# Altium integrated library NSC Converter Analog to Digital.IntLib: 246 symbols (part 4 of 7)
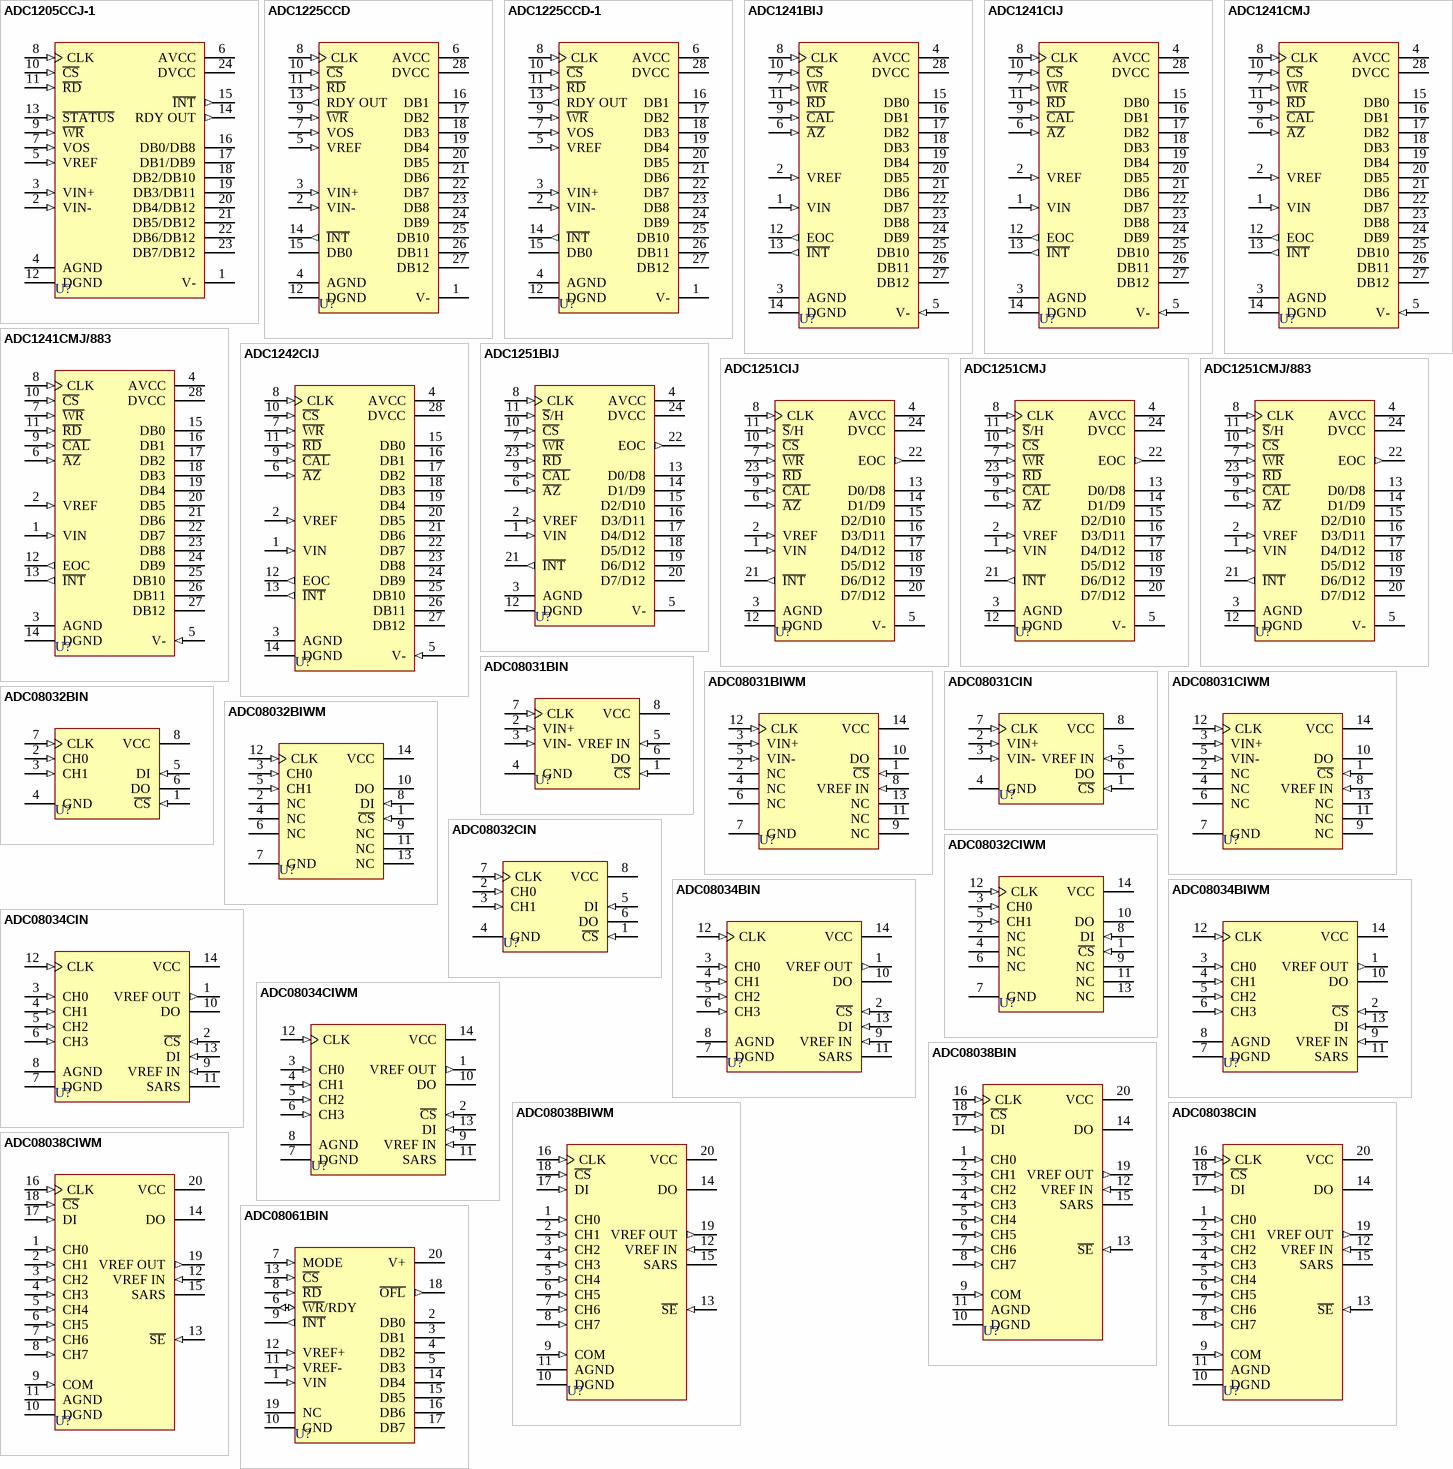
[diagram p12: symbols ADC1205CCJ-1 to ADC08061BIN]

## ADC08031BIWM
designator U?
8-Bit High-Speed Serial I/O A/D Converter with Multiplexer Options, Voltage Reference and Track/Hold Function; ComponentAvailability: Obsolete; Published: 15-Apr-2002; LatestRevisionDate: 13-Apr-2006; LatestRevisionNote: IPC-7351 Footprint Added.; DatasheetVersion: May-1998; PackageVersion: 2000; PackageReference: M14B; Publisher: Altium Limited; PackageDescription: 14-Pin Small Outline Integrated Circuit 1.27 mm Pitch; Code_JEDEC: MS-013-AF; Code_IPC: SOIC127P1030-14; ComponentLink1Description: Manufacturer Link; ComponentLink1URL: http://www.national.com/; ComponentLink2Description: Datasheet; ComponentLink2URL: http://www.national.com/ds.cgi/DC/ADC08031.pdf; ComponentLink3Description: Discontinuation Notice; ComponentLink3URL: http://www.national.com/obs/obsolescence.txt; ComponentLink4Description: URL Link1; ComponentLink4URL: http://www.national.com/pf/DC/ADC08031.html
footprint M14B_N (SOIC, 14-Leads, Body 9x7.5mm, Pitch 1.27mm, IPC Medium Density)
footprint M14B_L (SOIC, 14-Leads, Body 9x7.5mm, Pitch 1.27mm, IPC High Density)
footprint M14B_M (SOIC, 14-Leads, Body 9x7.5mm, Pitch 1.27mm, IPC Low Density)
3D model M14B (14-Pin Small Outline Integrated Circuit 1.27 mm Pitch)
pins: 1 ~{CS} (in), 2 NC, 3 VIN+ (in), 4 NC, 5 VIN- (in), 6 NC, 7 GND (power), 8 VREF IN (in), 9 NC, 10 DO (hiz), 11 NC, 12 CLK (in), 13 NC, 14 VCC (power)

## ADC08031CIN
designator U?
8-Bit High-Speed Serial I/O A/D Converter with Multiplexer Options, Voltage Reference and Track/Hold Function; ComponentAvailability: Obsolete; Published: 15-Apr-2002; LatestRevisionDate: 06-Jun-2005; LatestRevisionNote: Stylized 3D Model Added.; DatasheetVersion: Jun-1999; PackageVersion: Sep-1997; PackageReference: N08E; Publisher: Altium Limited; PackageDescription: DIP; 8 Leads; Row Spacing 7.62 mm; Pitch 2.54 mm; ComponentLink1Description: Manufacturer Link; ComponentLink1URL: http://www.national.com/; ComponentLink2Description: Datasheet; ComponentLink2URL: http://www.national.com/ds.cgi/DC/ADC08031.pdf; ComponentLink3Description: Discontinuation Notice; ComponentLink3URL: http://www.national.com/obs/obsolescence.txt; ComponentLink4Description: URL Link1; ComponentLink4URL: http://www.national.com/pf/DC/ADC08031.html
footprint N08E (DIP; 8 Leads; Row Spacing 7.62 mm; Pitch 2.54 mm)
3D model N08E (DIP; 8 Leads; Row Spacing 7.62 mm; Pitch 2.54 mm)
pins: 1 ~{CS} (in), 2 VIN+ (in), 3 VIN- (in), 4 GND (power), 5 VREF IN (in), 6 DO (hiz), 7 CLK (in), 8 VCC (power)

## ADC08031CIWM
designator U?
8-Bit High-Speed Serial I/O A/D Converter with Multiplexer Options, Voltage Reference and Track/Hold Function; Published: 15-Apr-2002; LatestRevisionDate: 13-Apr-2006; LatestRevisionNote: IPC-7351 Footprint Added.; DatasheetVersion: Jun-1999; PackageVersion: 2000; PackageReference: M14B; Publisher: Altium Limited; PackageDescription: 14-Pin Small Outline Integrated Circuit 1.27 mm Pitch; Code_JEDEC: MS-013-AF; Code_IPC: SOIC127P1030-14; ComponentLink1Description: Manufacturer Link; ComponentLink1URL: http://www.national.com/; ComponentLink2Description: Datasheet; ComponentLink2URL: http://www.national.com/ds.cgi/DC/ADC08031.pdf; ComponentLink3Description: URL Link1; ComponentLink3URL: http://www.national.com/pf/DC/ADC08031.html
footprint M14B_N (SOIC, 14-Leads, Body 9x7.5mm, Pitch 1.27mm, IPC Medium Density)
footprint M14B_L (SOIC, 14-Leads, Body 9x7.5mm, Pitch 1.27mm, IPC High Density)
footprint M14B_M (SOIC, 14-Leads, Body 9x7.5mm, Pitch 1.27mm, IPC Low Density)
3D model M14B (14-Pin Small Outline Integrated Circuit 1.27 mm Pitch)
pins: 1 ~{CS} (in), 2 NC, 3 VIN+ (in), 4 NC, 5 VIN- (in), 6 NC, 7 GND (power), 8 VREF IN (in), 9 NC, 10 DO (hiz), 11 NC, 12 CLK (in), 13 NC, 14 VCC (power)

## ADC08032BIN
designator U?
8-Bit High-Speed Serial I/O A/D Converter with Multiplexer Options, Voltage Reference and Track/Hold Function; ComponentAvailability: Obsolete; Published: 15-Apr-2002; LatestRevisionDate: 06-Jun-2005; LatestRevisionNote: Stylized 3D Model Added.; DatasheetVersion: May-1998; PackageVersion: Sep-1997; PackageReference: N08E; Publisher: Altium Limited; PackageDescription: DIP; 8 Leads; Row Spacing 7.62 mm; Pitch 2.54 mm; ComponentLink1Description: Manufacturer Link; ComponentLink1URL: http://www.national.com/; ComponentLink2Description: Datasheet; ComponentLink2URL: http://www.national.com/ds.cgi/DC/ADC08031.pdf; ComponentLink3Description: Discontinuation Notice; ComponentLink3URL: http://www.national.com/obs/obsolescence.txt; ComponentLink4Description: URL Link1; ComponentLink4URL: http://www.national.com/pf/DC/ADC08032.html
footprint N08E (DIP; 8 Leads; Row Spacing 7.62 mm; Pitch 2.54 mm)
3D model N08E (DIP; 8 Leads; Row Spacing 7.62 mm; Pitch 2.54 mm)
pins: 1 ~{CS} (in), 2 CH0 (in), 3 CH1 (in), 4 GND (power), 5 DI (in), 6 DO (hiz), 7 CLK (in), 8 VCC (power)

## ADC08032BIWM
designator U?
8-Bit High-Speed Serial I/O A/D Converter with Multiplexer Options, Voltage Reference and Track/Hold Function; ComponentAvailability: Obsolete; Published: 15-Apr-2002; LatestRevisionDate: 13-Apr-2006; LatestRevisionNote: IPC-7351 Footprint Added.; DatasheetVersion: May-1998; PackageVersion: 2000; PackageReference: M14B; Publisher: Altium Limited; PackageDescription: 14-Pin Small Outline Integrated Circuit 1.27 mm Pitch; Code_JEDEC: MS-013-AF; Code_IPC: SOIC127P1030-14; ComponentLink1Description: Manufacturer Link; ComponentLink1URL: http://www.national.com/; ComponentLink2Description: Datasheet; ComponentLink2URL: http://www.national.com/ds.cgi/DC/ADC08031.pdf; ComponentLink3Description: Discontinuation Notice; ComponentLink3URL: http://www.national.com/obs/obsolescence.txt; ComponentLink4Description: URL Link1; ComponentLink4URL: http://www.national.com/pf/DC/ADC08032.html
footprint M14B_N (SOIC, 14-Leads, Body 9x7.5mm, Pitch 1.27mm, IPC Medium Density)
footprint M14B_L (SOIC, 14-Leads, Body 9x7.5mm, Pitch 1.27mm, IPC High Density)
footprint M14B_M (SOIC, 14-Leads, Body 9x7.5mm, Pitch 1.27mm, IPC Low Density)
3D model M14B (14-Pin Small Outline Integrated Circuit 1.27 mm Pitch)
pins: 1 ~{CS} (in), 2 NC, 3 CH0 (in), 4 NC, 5 CH1 (in), 6 NC, 7 GND (power), 8 DI (in), 9 NC, 10 DO (hiz), 11 NC, 12 CLK (in), 13 NC, 14 VCC (power)

## ADC08032CIN
designator U?
8-Bit High-Speed Serial I/O A/D Converter with Multiplexer Options, Voltage Reference and Track/Hold Function; ComponentAvailability: Obsolete; Published: 15-Apr-2002; LatestRevisionDate: 06-Jun-2005; LatestRevisionNote: Stylized 3D Model Added.; DatasheetVersion: May-1998; PackageVersion: Sep-1997; PackageReference: N08E; Publisher: Altium Limited; PackageDescription: DIP; 8 Leads; Row Spacing 7.62 mm; Pitch 2.54 mm; ComponentLink1Description: Manufacturer Link; ComponentLink1URL: http://www.national.com/; ComponentLink2Description: Datasheet; ComponentLink2URL: http://www.national.com/ds.cgi/DC/ADC08031.pdf; ComponentLink3Description: Discontinuation Notice; ComponentLink3URL: http://www.national.com/obs/obsolescence.txt; ComponentLink4Description: URL Link1; ComponentLink4URL: http://www.national.com/pf/DC/ADC08032.html
footprint N08E (DIP; 8 Leads; Row Spacing 7.62 mm; Pitch 2.54 mm)
3D model N08E (DIP; 8 Leads; Row Spacing 7.62 mm; Pitch 2.54 mm)
pins: 1 ~{CS} (in), 2 CH0 (in), 3 CH1 (in), 4 GND (power), 5 DI (in), 6 DO (hiz), 7 CLK (in), 8 VCC (power)

## ADC08032CIWM
designator U?
8-Bit High-Speed Serial I/O A/D Converter with Multiplexer Options, Voltage Reference and Track/Hold Function; Published: 15-Apr-2002; LatestRevisionDate: 13-Apr-2006; LatestRevisionNote: IPC-7351 Footprint Added.; DatasheetVersion: May-1998; PackageVersion: 2000; PackageReference: M14B; Publisher: Altium Limited; PackageDescription: 14-Pin Small Outline Integrated Circuit 1.27 mm Pitch; Code_JEDEC: MS-013-AF; Code_IPC: SOIC127P1030-14; ComponentLink1Description: Manufacturer Link; ComponentLink1URL: http://www.national.com/; ComponentLink2Description: Datasheet; ComponentLink2URL: http://www.national.com/ds.cgi/DC/ADC08031.pdf; ComponentLink3Description: URL Link1; ComponentLink3URL: http://www.national.com/pf/DC/ADC08032.html
footprint M14B_N (SOIC, 14-Leads, Body 9x7.5mm, Pitch 1.27mm, IPC Medium Density)
footprint M14B_L (SOIC, 14-Leads, Body 9x7.5mm, Pitch 1.27mm, IPC High Density)
footprint M14B_M (SOIC, 14-Leads, Body 9x7.5mm, Pitch 1.27mm, IPC Low Density)
3D model M14B (14-Pin Small Outline Integrated Circuit 1.27 mm Pitch)
pins: 1 ~{CS} (in), 2 NC, 3 CH0 (in), 4 NC, 5 CH1 (in), 6 NC, 7 GND (power), 8 DI (in), 9 NC, 10 DO (hiz), 11 NC, 12 CLK (in), 13 NC, 14 VCC (power)

## ADC08034BIN
designator U?
8-Bit High-Speed Serial I/O A/D Converter with Multiplexer Options, Voltage Reference and Track/Hold Function; Published: 15-Apr-2002; LatestRevisionDate: 06-Jun-2005; LatestRevisionNote: Stylized 3D Model Added.; DatasheetVersion: May-1998; PackageVersion: 2000; PackageReference: N14A; Publisher: Altium Limited; PackageDescription: DIP; 14 Leads; Row Spacing 7.62 mm; Pitch 2.54 mm; ComponentLink1Description: Manufacturer Link; ComponentLink1URL: http://www.national.com/; ComponentLink2Description: Datasheet; ComponentLink2URL: http://www.national.com/ds.cgi/DC/ADC08031.pdf; ComponentLink3Description: URL Link1; ComponentLink3URL: http://www.national.com/pf/DC/ADC08034.html
footprint N14A (DIP; 14 Leads; Row Spacing 7.62 mm; Pitch 2.54 mm)
3D model N14A (DIP; 14 Leads; Row Spacing 7.62 mm; Pitch 2.54 mm)
pins: 1 VREF OUT (out), 2 ~{CS} (in), 3 CH0 (in), 4 CH1 (in), 5 CH2 (in), 6 CH3 (in), 7 DGND (power), 8 AGND (power), 9 VREF IN (in), 10 DO (hiz), 11 SARS (hiz), 12 CLK (in), 13 DI (in), 14 VCC (power)

## ADC08034BIWM
designator U?
8-Bit High-Speed Serial I/O A/D Converter with Multiplexer Options, Voltage Reference and Track/Hold Function; ComponentAvailability: Obsolete; Published: 15-Apr-2002; LatestRevisionDate: 13-Apr-2006; LatestRevisionNote: IPC-7351 Footprint Added.; DatasheetVersion: May-1998; PackageVersion: 2000; PackageReference: M14B; Publisher: Altium Limited; PackageDescription: 14-Pin Small Outline Integrated Circuit 1.27 mm Pitch; Code_JEDEC: MS-013-AF; Code_IPC: SOIC127P1030-14; ComponentLink1Description: Manufacturer Link; ComponentLink1URL: http://www.national.com/; ComponentLink2Description: Datasheet; ComponentLink2URL: http://www.national.com/ds.cgi/DC/ADC08031.pdf; ComponentLink3Description: Discontinuation Notice; ComponentLink3URL: http://www.national.com/obs/obsolescence.txt; ComponentLink4Description: URL Link1; ComponentLink4URL: http://www.national.com/pf/DC/ADC08034.html
footprint M14B_N (SOIC, 14-Leads, Body 9x7.5mm, Pitch 1.27mm, IPC Medium Density)
footprint M14B_L (SOIC, 14-Leads, Body 9x7.5mm, Pitch 1.27mm, IPC High Density)
footprint M14B_M (SOIC, 14-Leads, Body 9x7.5mm, Pitch 1.27mm, IPC Low Density)
3D model M14B (14-Pin Small Outline Integrated Circuit 1.27 mm Pitch)
pins: 1 VREF OUT (out), 2 ~{CS} (in), 3 CH0 (in), 4 CH1 (in), 5 CH2 (in), 6 CH3 (in), 7 DGND (power), 8 AGND (power), 9 VREF IN (in), 10 DO (hiz), 11 SARS (hiz), 12 CLK (in), 13 DI (in), 14 VCC (power)

## ADC08034CIN
designator U?
8-Bit High-Speed Serial I/O A/D Converter with Multiplexer Options, Voltage Reference and Track/Hold Function; ComponentAvailability: Obsolete; Published: 15-Apr-2002; LatestRevisionDate: 06-Jun-2005; LatestRevisionNote: Stylized 3D Model Added.; DatasheetVersion: May-1998; PackageVersion: 2000; PackageReference: N14A; Publisher: Altium Limited; PackageDescription: DIP; 14 Leads; Row Spacing 7.62 mm; Pitch 2.54 mm; ComponentLink1Description: Manufacturer Link; ComponentLink1URL: http://www.national.com/; ComponentLink2Description: Datasheet; ComponentLink2URL: http://www.national.com/ds.cgi/DC/ADC08031.pdf; ComponentLink3Description: Discontinuation Notice; ComponentLink3URL: http://www.national.com/obs/obsolescence.txt; ComponentLink4Description: URL Link1; ComponentLink4URL: http://www.national.com/pf/DC/ADC08034.html
footprint N14A (DIP; 14 Leads; Row Spacing 7.62 mm; Pitch 2.54 mm)
3D model N14A (DIP; 14 Leads; Row Spacing 7.62 mm; Pitch 2.54 mm)
pins: 1 VREF OUT (out), 2 ~{CS} (in), 3 CH0 (in), 4 CH1 (in), 5 CH2 (in), 6 CH3 (in), 7 DGND (power), 8 AGND (power), 9 VREF IN (in), 10 DO (hiz), 11 SARS (hiz), 12 CLK (in), 13 DI (in), 14 VCC (power)

## ADC08034CIWM
designator U?
8-Bit High-Speed Serial I/O A/D Converter with Multiplexer Options, Voltage Reference and Track/Hold Function; Published: 15-Apr-2002; LatestRevisionDate: 13-Apr-2006; LatestRevisionNote: IPC-7351 Footprint Added.; DatasheetVersion: Jun-1999; PackageVersion: 2000; PackageReference: M14B; Publisher: Altium Limited; PackageDescription: 14-Pin Small Outline Integrated Circuit 1.27 mm Pitch; Code_JEDEC: MS-013-AF; Code_IPC: SOIC127P1030-14; ComponentLink1Description: Manufacturer Link; ComponentLink1URL: http://www.national.com/; ComponentLink2Description: Datasheet; ComponentLink2URL: http://www.national.com/ds.cgi/DC/ADC08031.pdf; ComponentLink3Description: URL Link1; ComponentLink3URL: http://www.national.com/pf/DC/ADC08034.html
footprint M14B_N (SOIC, 14-Leads, Body 9x7.5mm, Pitch 1.27mm, IPC Medium Density)
footprint M14B_L (SOIC, 14-Leads, Body 9x7.5mm, Pitch 1.27mm, IPC High Density)
footprint M14B_M (SOIC, 14-Leads, Body 9x7.5mm, Pitch 1.27mm, IPC Low Density)
3D model M14B (14-Pin Small Outline Integrated Circuit 1.27 mm Pitch)
pins: 1 VREF OUT (out), 2 ~{CS} (in), 3 CH0 (in), 4 CH1 (in), 5 CH2 (in), 6 CH3 (in), 7 DGND (power), 8 AGND (power), 9 VREF IN (in), 10 DO (hiz), 11 SARS (hiz), 12 CLK (in), 13 DI (in), 14 VCC (power)

## ADC08038BIN
designator U?
8-Bit High-Speed Serial I/O A/D Converter with Multiplexer Options, Voltage Reference and Track/Hold Function; ComponentAvailability: Obsolete; Published: 15-Apr-2002; LatestRevisionDate: 06-Jun-2005; LatestRevisionNote: Stylized 3D Model Added.; DatasheetVersion: May-1998; PackageVersion: 2000; PackageReference: N20A; Publisher: Altium Limited; PackageDescription: DIP; 20 Leads; Row Spacing 7.62 mm; Pitch 2.54 mm; Code_JEDEC: MS-001-AD; ComponentLink1Description: Manufacturer Link; ComponentLink1URL: http://www.national.com/; ComponentLink2Description: Datasheet; ComponentLink2URL: http://www.national.com/ds.cgi/DC/ADC08031.pdf; ComponentLink3Description: Discontinuation Notice; ComponentLink3URL: http://www.national.com/obs/obsolescence.txt; ComponentLink4Description: URL Link1; ComponentLink4URL: http://www.national.com/pf/DC/ADC08038.html
footprint N20A (DIP; 20 Leads; Row Spacing 7.62 mm; Pitch 2.54 mm)
3D model N20A (DIP; 20 Leads; Row Spacing 7.62 mm; Pitch 2.54 mm)
pins: 1 CH0 (in), 2 CH1 (in), 3 CH2 (in), 4 CH3 (in), 5 CH4 (in), 6 CH5 (in), 7 CH6 (in), 8 CH7 (in), 9 COM (in), 10 DGND (power), 11 AGND (power), 12 VREF IN (in), 13 ~{SE} (in), 14 DO (hiz), 15 SARS (hiz), 16 CLK (in), 17 DI (in), 18 ~{CS} (in), 19 VREF OUT (out), 20 VCC (power)

## ADC08038BIWM
designator U?
8-Bit High-Speed Serial I/O A/D Converter with Multiplexer Options, Voltage Reference and Track/Hold Function; ComponentAvailability: Obsolete; Published: 15-Apr-2002; LatestRevisionDate: 13-Apr-2006; LatestRevisionNote: IPC-7351 Footprint Added.; DatasheetVersion: May-1998; PackageVersion: 2000; PackageReference: M20B; Publisher: Altium Limited; PackageDescription: 20-Pin Small Outline Integrated Circuit 1.27 mm Pitch; Code_JEDEC: MS-013-AC; Code_IPC: SOIC127P1030-20; ComponentLink1Description: Manufacturer Link; ComponentLink1URL: http://www.national.com/; ComponentLink2Description: Datasheet; ComponentLink2URL: http://www.national.com/ds.cgi/DC/ADC08031.pdf; ComponentLink3Description: Discontinuation Notice; ComponentLink3URL: http://www.national.com/obs/obsolescence.txt; ComponentLink4Description: URL Link1; ComponentLink4URL: http://www.national.com/pf/DC/ADC08038.html
footprint M20B_N (SOIC, 20-Leads, Body 12.8x7.5mm, Pitch 1.27mm, IPC Medium Density)
footprint M20B_L (SOIC, 20-Leads, Body 12.8x7.5mm, Pitch 1.27mm, IPC High Density)
footprint M20B_M (SOIC, 20-Leads, Body 12.8x7.5mm, Pitch 1.27mm, IPC Low Density)
3D model M20B (20-Pin Small Outline Integrated Circuit 1.27 mm Pitch)
pins: 1 CH0 (in), 2 CH1 (in), 3 CH2 (in), 4 CH3 (in), 5 CH4 (in), 6 CH5 (in), 7 CH6 (in), 8 CH7 (in), 9 COM (in), 10 DGND (power), 11 AGND (power), 12 VREF IN (in), 13 ~{SE} (in), 14 DO (hiz), 15 SARS (hiz), 16 CLK (in), 17 DI (in), 18 ~{CS} (in), 19 VREF OUT (out), 20 VCC (power)

## ADC08038CIN
designator U?
8-Bit High-Speed Serial I/O A/D Converter with Multiplexer Options, Voltage Reference and Track/Hold Function; ComponentAvailability: Obsolete; Published: 15-Apr-2002; LatestRevisionDate: 06-Jun-2005; LatestRevisionNote: Stylized 3D Model Added.; DatasheetVersion: May-1998; PackageVersion: 2000; PackageReference: N20A; Publisher: Altium Limited; PackageDescription: DIP; 20 Leads; Row Spacing 7.62 mm; Pitch 2.54 mm; Code_JEDEC: MS-001-AD; ComponentLink1Description: Manufacturer Link; ComponentLink1URL: http://www.national.com/; ComponentLink2Description: Datasheet; ComponentLink2URL: http://www.national.com/ds.cgi/DC/ADC08031.pdf; ComponentLink3Description: Discontinuation Notice; ComponentLink3URL: http://www.national.com/obs/obsolescence.txt; ComponentLink4Description: URL Link1; ComponentLink4URL: http://www.national.com/pf/DC/ADC08038.html
footprint N20A (DIP; 20 Leads; Row Spacing 7.62 mm; Pitch 2.54 mm)
3D model N20A (DIP; 20 Leads; Row Spacing 7.62 mm; Pitch 2.54 mm)
pins: 1 CH0 (in), 2 CH1 (in), 3 CH2 (in), 4 CH3 (in), 5 CH4 (in), 6 CH5 (in), 7 CH6 (in), 8 CH7 (in), 9 COM (in), 10 DGND (power), 11 AGND (power), 12 VREF IN (in), 13 ~{SE} (in), 14 DO (hiz), 15 SARS (hiz), 16 CLK (in), 17 DI (in), 18 ~{CS} (in), 19 VREF OUT (out), 20 VCC (power)

## ADC08038CIWM
designator U?
8-Bit High-Speed Serial I/O A/D Converter with Multiplexer Options, Voltage Reference and Track/Hold Function; Published: 15-Apr-2002; LatestRevisionDate: 13-Apr-2006; LatestRevisionNote: IPC-7351 Footprint Added.; DatasheetVersion: Jun-1999; PackageVersion: 2000; PackageReference: M20B; Publisher: Altium Limited; PackageDescription: 20-Pin Small Outline Integrated Circuit 1.27 mm Pitch; Code_JEDEC: MS-013-AC; Code_IPC: SOIC127P1030-20; ComponentLink1Description: Manufacturer Link; ComponentLink1URL: http://www.national.com/; ComponentLink2Description: Datasheet; ComponentLink2URL: http://www.national.com/ds.cgi/DC/ADC08031.pdf; ComponentLink3Description: URL Link1; ComponentLink3URL: http://www.national.com/pf/DC/ADC08038.html
footprint M20B_N (SOIC, 20-Leads, Body 12.8x7.5mm, Pitch 1.27mm, IPC Medium Density)
footprint M20B_L (SOIC, 20-Leads, Body 12.8x7.5mm, Pitch 1.27mm, IPC High Density)
footprint M20B_M (SOIC, 20-Leads, Body 12.8x7.5mm, Pitch 1.27mm, IPC Low Density)
3D model M20B (20-Pin Small Outline Integrated Circuit 1.27 mm Pitch)
pins: 1 CH0 (in), 2 CH1 (in), 3 CH2 (in), 4 CH3 (in), 5 CH4 (in), 6 CH5 (in), 7 CH6 (in), 8 CH7 (in), 9 COM (in), 10 DGND (power), 11 AGND (power), 12 VREF IN (in), 13 ~{SE} (in), 14 DO (hiz), 15 SARS (hiz), 16 CLK (in), 17 DI (in), 18 ~{CS} (in), 19 VREF OUT (out), 20 VCC (power)

## ADC08061BIN
designator U?
500 nS A/D Converter with S/H Function and Input Multiplexer; ComponentAvailability: Obsolete; Published: 15-Apr-2002; LatestRevisionDate: 06-Jun-2005; LatestRevisionNote: Stylized 3D Model Added.; DatasheetVersion: Jun-1999; PackageVersion: 2000; PackageReference: N20A; Publisher: Altium Limited; PackageDescription: DIP; 20 Leads; Row Spacing 7.62 mm; Pitch 2.54 mm; Code_JEDEC: MS-001-AD; ComponentLink1Description: Manufacturer Link; ComponentLink1URL: http://www.national.com/; ComponentLink2Description: Datasheet; ComponentLink2URL: http://www.national.com/ds.cgi/DC/ADC08061.pdf; ComponentLink3Description: Discontinuation Notice; ComponentLink3URL: http://www.national.com/obs/obsolescence.txt; ComponentLink4Description: URL Link1; ComponentLink4URL: http://www.national.com/pf/DC/ADC08061.html
footprint N20A (DIP; 20 Leads; Row Spacing 7.62 mm; Pitch 2.54 mm)
3D model N20A (DIP; 20 Leads; Row Spacing 7.62 mm; Pitch 2.54 mm)
pins: 1 VIN (in), 2 DB0 (hiz), 3 DB1 (hiz), 4 DB2 (hiz), 5 DB3 (hiz), 6 ~{WR}/RDY (io), 7 MODE (in), 8 ~{RD} (in), 9 ~{INT} (out), 10 GND (power), 11 VREF- (in), 12 VREF+ (in), 13 ~{CS} (in), 14 DB4 (hiz), 15 DB5 (hiz), 16 DB6 (hiz), 17 DB7 (hiz), 18 ~{OFL} (out), 19 NC, 20 V+ (power)

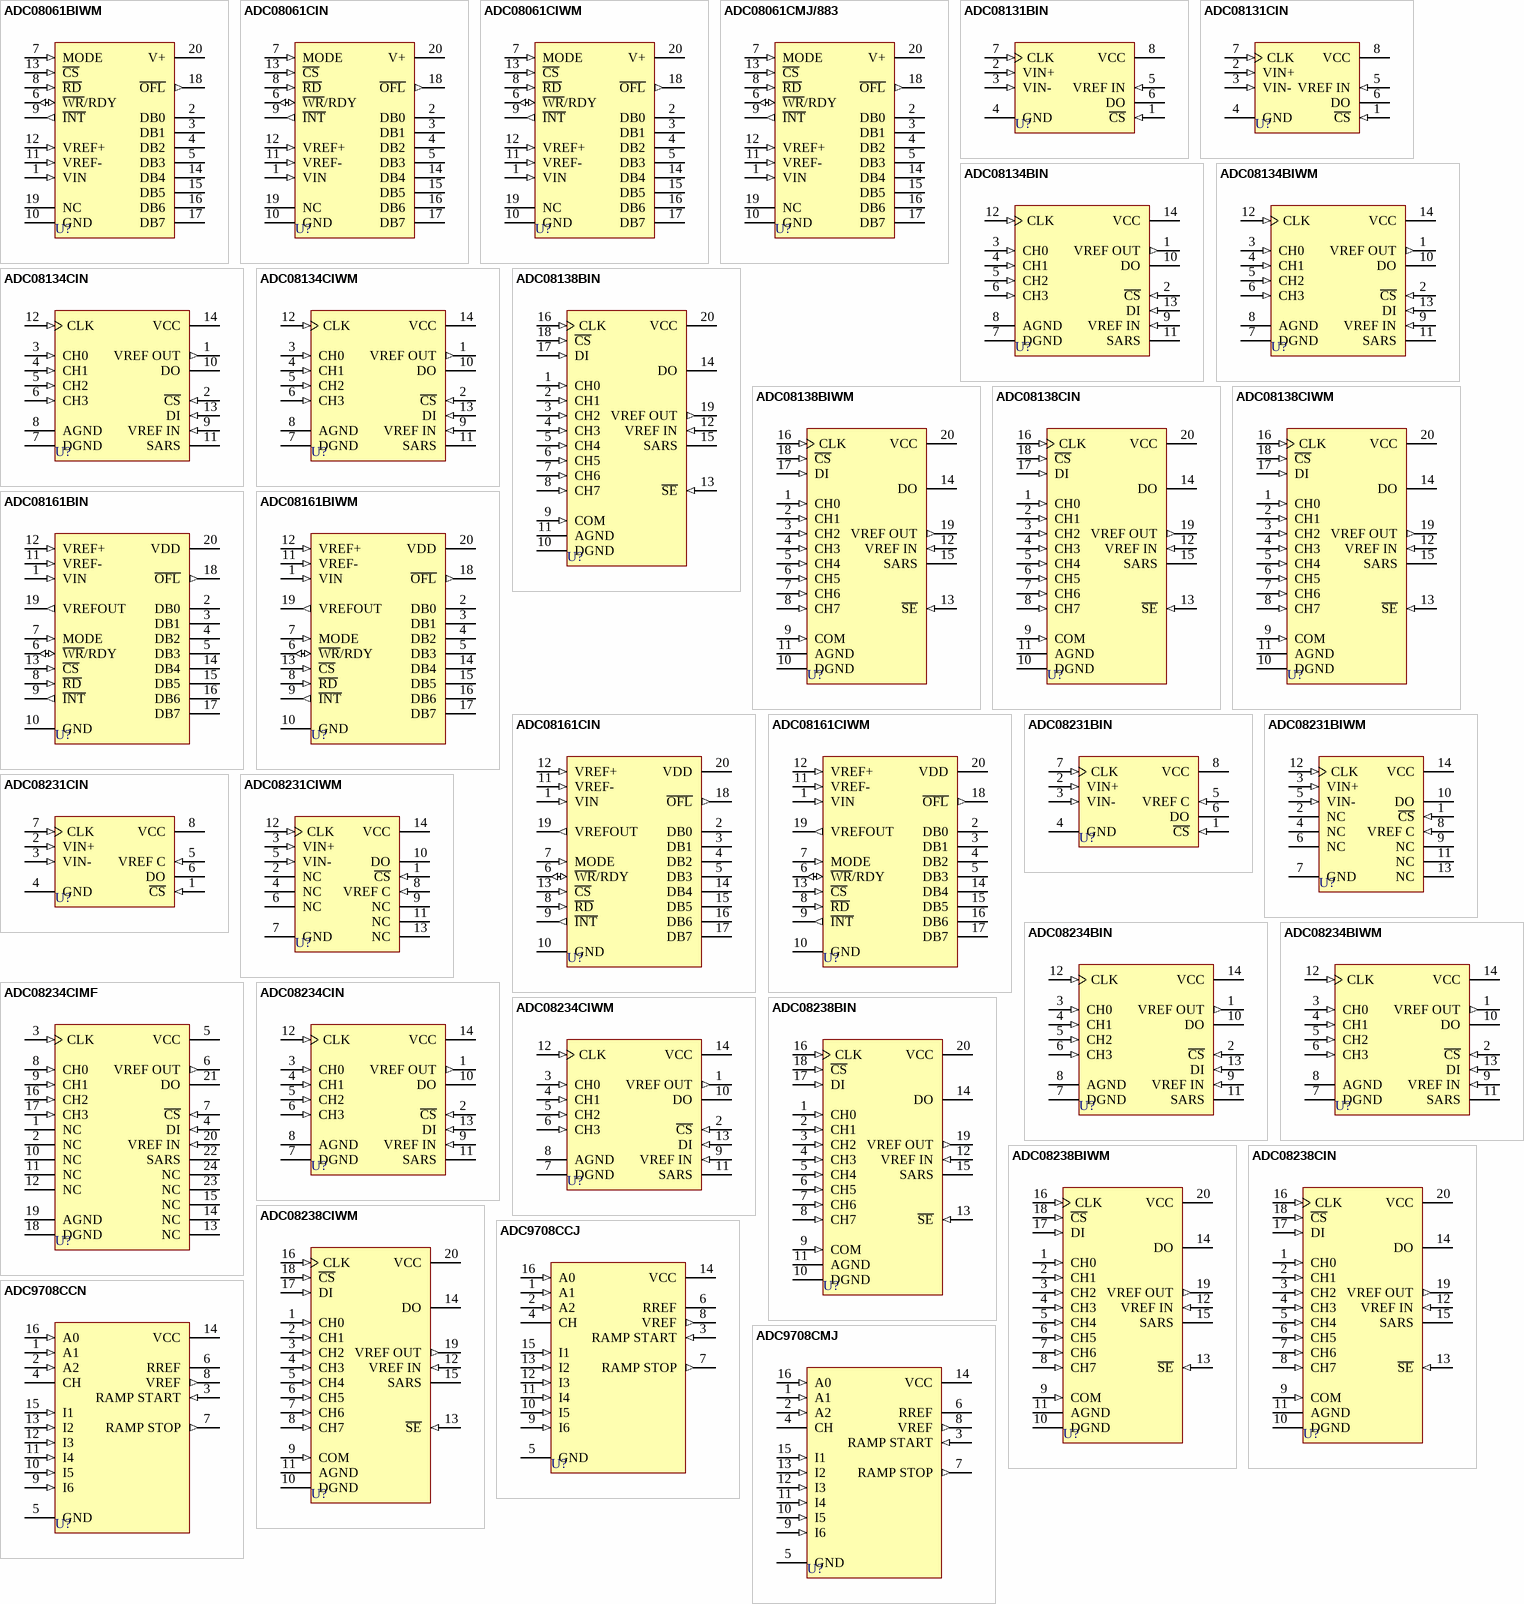
[diagram p5: symbols ADC08061BIWM to ADC9708CMJ]

## ADC08061BIWM
designator U?
500 nS A/D Converter with S/H Function and Input Multiplexer; ComponentAvailability: Obsolete; Published: 15-Apr-2002; LatestRevisionDate: 13-Apr-2006; LatestRevisionNote: IPC-7351 Footprint Added.; DatasheetVersion: Mar-1999; PackageVersion: 2000; PackageReference: M20B; Publisher: Altium Limited; PackageDescription: 20-Pin Small Outline Integrated Circuit 1.27 mm Pitch; Code_JEDEC: MS-013-AC; Code_IPC: SOIC127P1030-20; ComponentLink1Description: Manufacturer Link; ComponentLink1URL: http://www.national.com/; ComponentLink2Description: Datasheet; ComponentLink2URL: http://www.national.com/ds.cgi/DC/ADC08061.pdf; ComponentLink3Description: Discontinuation Notice; ComponentLink3URL: http://www.national.com/obs/obsolescence.txt; ComponentLink4Description: URL Link1; ComponentLink4URL: http://www.national.com/pf/DC/ADC08061.html
footprint M20B_N (SOIC, 20-Leads, Body 12.8x7.5mm, Pitch 1.27mm, IPC Medium Density)
footprint M20B_L (SOIC, 20-Leads, Body 12.8x7.5mm, Pitch 1.27mm, IPC High Density)
footprint M20B_M (SOIC, 20-Leads, Body 12.8x7.5mm, Pitch 1.27mm, IPC Low Density)
3D model M20B (20-Pin Small Outline Integrated Circuit 1.27 mm Pitch)
pins: 1 VIN (in), 2 DB0 (hiz), 3 DB1 (hiz), 4 DB2 (hiz), 5 DB3 (hiz), 6 ~{WR}/RDY (io), 7 MODE (in), 8 ~{RD} (in), 9 ~{INT} (out), 10 GND (power), 11 VREF- (in), 12 VREF+ (in), 13 ~{CS} (in), 14 DB4 (hiz), 15 DB5 (hiz), 16 DB6 (hiz), 17 DB7 (hiz), 18 ~{OFL} (out), 19 NC, 20 V+ (power)

## ADC08061CIN
designator U?
500 nS A/D Converter with S/H Function and Input Multiplexer; ComponentAvailability: Obsolete; Published: 15-Apr-2002; LatestRevisionDate: 06-Jun-2005; LatestRevisionNote: Stylized 3D Model Added.; DatasheetVersion: Mar-1999; PackageVersion: 2000; PackageReference: N20A; Publisher: Altium Limited; PackageDescription: DIP; 20 Leads; Row Spacing 7.62 mm; Pitch 2.54 mm; Code_JEDEC: MS-001-AD; ComponentLink1Description: Manufacturer Link; ComponentLink1URL: http://www.national.com/; ComponentLink2Description: Datasheet; ComponentLink2URL: http://www.national.com/ds.cgi/DC/ADC08061.pdf; ComponentLink3Description: Discontinuation Notice; ComponentLink3URL: http://www.national.com/obs/obsolescence.txt; ComponentLink4Description: URL Link1; ComponentLink4URL: http://www.national.com/pf/DC/ADC08061.html
footprint N20A (DIP; 20 Leads; Row Spacing 7.62 mm; Pitch 2.54 mm)
3D model N20A (DIP; 20 Leads; Row Spacing 7.62 mm; Pitch 2.54 mm)
pins: 1 VIN (in), 2 DB0 (hiz), 3 DB1 (hiz), 4 DB2 (hiz), 5 DB3 (hiz), 6 ~{WR}/RDY (io), 7 MODE (in), 8 ~{RD} (in), 9 ~{INT} (out), 10 GND (power), 11 VREF- (in), 12 VREF+ (in), 13 ~{CS} (in), 14 DB4 (hiz), 15 DB5 (hiz), 16 DB6 (hiz), 17 DB7 (hiz), 18 ~{OFL} (out), 19 NC, 20 V+ (power)

## ADC08061CIWM
designator U?
500 nS A/D Converter with S/H Function and Input Multiplexer; Published: 15-Apr-2002; LatestRevisionDate: 13-Apr-2006; LatestRevisionNote: IPC-7351 Footprint Added.; DatasheetVersion: Jun-1999; PackageVersion: 2000; PackageReference: M20B; Publisher: Altium Limited; PackageDescription: 20-Pin Small Outline Integrated Circuit 1.27 mm Pitch; Code_JEDEC: MS-013-AC; Code_IPC: SOIC127P1030-20; ComponentLink1Description: Manufacturer Link; ComponentLink1URL: http://www.national.com/; ComponentLink2Description: Datasheet; ComponentLink2URL: http://www.national.com/ds.cgi/DC/ADC08061.pdf; ComponentLink3Description: URL Link1; ComponentLink3URL: http://www.national.com/pf/DC/ADC08061.html
footprint M20B_N (SOIC, 20-Leads, Body 12.8x7.5mm, Pitch 1.27mm, IPC Medium Density)
footprint M20B_L (SOIC, 20-Leads, Body 12.8x7.5mm, Pitch 1.27mm, IPC High Density)
footprint M20B_M (SOIC, 20-Leads, Body 12.8x7.5mm, Pitch 1.27mm, IPC Low Density)
3D model M20B (20-Pin Small Outline Integrated Circuit 1.27 mm Pitch)
pins: 1 VIN (in), 2 DB0 (hiz), 3 DB1 (hiz), 4 DB2 (hiz), 5 DB3 (hiz), 6 ~{WR}/RDY (io), 7 MODE (in), 8 ~{RD} (in), 9 ~{INT} (out), 10 GND (power), 11 VREF- (in), 12 VREF+ (in), 13 ~{CS} (in), 14 DB4 (hiz), 15 DB5 (hiz), 16 DB6 (hiz), 17 DB7 (hiz), 18 ~{OFL} (out), 19 NC, 20 V+ (power)

## ADC08061CMJ/883
designator U?
500 nS A/D Converter with S/H Function and Input Multiplexer; Published: 15-Apr-2002; LatestRevisionDate: 06-Jun-2005; LatestRevisionNote: Stylized 3D Model Added.; DatasheetVersion: Mar-1999; PackageVersion: 2000; PackageReference: J20A; Publisher: Altium Limited; PackageDescription: DIP; 20 Leads; Row Spacing 7.62 mm; Pitch 2.54 mm; Code_JEDEC: MS-015-AE; ComponentLink1Description: Manufacturer Link; ComponentLink1URL: http://www.national.com/; ComponentLink2Description: Datasheet; ComponentLink2URL: http://www.national.com/ds.cgi/DC/ADC08061.pdf; ComponentLink3Description: URL Link1; ComponentLink3URL: http://www.national.com/pf/DC/ADC08061.html
footprint J20A (DIP; 20 Leads; Row Spacing 7.62 mm; Pitch 2.54 mm)
3D model J20A (DIP; 20 Leads; Row Spacing 7.62 mm; Pitch 2.54 mm)
pins: 1 VIN (in), 2 DB0 (hiz), 3 DB1 (hiz), 4 DB2 (hiz), 5 DB3 (hiz), 6 ~{WR}/RDY (io), 7 MODE (in), 8 ~{RD} (in), 9 ~{INT} (out), 10 GND (power), 11 VREF- (in), 12 VREF+ (in), 13 ~{CS} (in), 14 DB4 (hiz), 15 DB5 (hiz), 16 DB6 (hiz), 17 DB7 (hiz), 18 ~{OFL} (out), 19 NC, 20 V+ (power)

## ADC08131BIN
designator U?
8-Bit High-Speed Serial I/O A/D Converter with Multiplexer Options, Voltage Reference and Track/Hold Function; ComponentAvailability: Obsolete; Published: 15-Apr-2002; LatestRevisionDate: 06-Jun-2005; LatestRevisionNote: Stylized 3D Model Added.; PackageVersion: Sep-1997; PackageReference: N08E; Publisher: Altium Limited; PackageDescription: DIP; 8 Leads; Row Spacing 7.62 mm; Pitch 2.54 mm; ComponentLink1Description: Manufacturer Link; ComponentLink1URL: http://www.national.com/; ComponentLink2Description: Datasheet; ComponentLink2URL: http://www.national.com/ds.cgi/DC/ADC08131.pdf; ComponentLink3Description: Discontinuation Notice; ComponentLink3URL: http://www.national.com/obs/obsolescence.txt; ComponentLink4Description: URL Link1; ComponentLink4URL: http://www.national.com/pf/DC/ADC08131.html
footprint N08E (DIP; 8 Leads; Row Spacing 7.62 mm; Pitch 2.54 mm)
3D model N08E (DIP; 8 Leads; Row Spacing 7.62 mm; Pitch 2.54 mm)
pins: 1 ~{CS} (in), 2 VIN+ (in), 3 VIN- (in), 4 GND (power), 5 VREF IN (in), 6 DO (hiz), 7 CLK (in), 8 VCC (power)

## ADC08131CIN
designator U?
8-Bit High-Speed Serial I/O A/D Converter with Multiplexer Options, Voltage Reference and Track/Hold Function; ComponentAvailability: Obsolete; Published: 15-Apr-2002; LatestRevisionDate: 06-Jun-2005; LatestRevisionNote: Stylized 3D Model Added.; PackageVersion: Sep-1997; PackageReference: N08E; Publisher: Altium Limited; PackageDescription: DIP; 8 Leads; Row Spacing 7.62 mm; Pitch 2.54 mm; ComponentLink1Description: Manufacturer Link; ComponentLink1URL: http://www.national.com/; ComponentLink2Description: Datasheet; ComponentLink2URL: http://www.national.com/ds.cgi/DC/ADC08131.pdf; ComponentLink3Description: Discontinuation Notice; ComponentLink3URL: http://www.national.com/obs/obsolescence.txt; ComponentLink4Description: URL Link1; ComponentLink4URL: http://www.national.com/pf/DC/ADC08131.html
footprint N08E (DIP; 8 Leads; Row Spacing 7.62 mm; Pitch 2.54 mm)
3D model N08E (DIP; 8 Leads; Row Spacing 7.62 mm; Pitch 2.54 mm)
pins: 1 ~{CS} (in), 2 VIN+ (in), 3 VIN- (in), 4 GND (power), 5 VREF IN (in), 6 DO (hiz), 7 CLK (in), 8 VCC (power)

## ADC08134BIN
designator U?
8-Bit High-Speed Serial I/O A/D Converter with Multiplexer Options, Voltage Reference and Track/Hold Function; ComponentAvailability: Obsolete; Published: 15-Apr-2002; LatestRevisionDate: 06-Jun-2005; LatestRevisionNote: Stylized 3D Model Added.; PackageVersion: 2000; PackageReference: N14A; Publisher: Altium Limited; PackageDescription: DIP; 14 Leads; Row Spacing 7.62 mm; Pitch 2.54 mm; ComponentLink1Description: Manufacturer Link; ComponentLink1URL: http://www.national.com/; ComponentLink2Description: Datasheet; ComponentLink2URL: http://www.national.com/ds.cgi/DC/ADC08131.pdf; ComponentLink3Description: Discontinuation Notice; ComponentLink3URL: http://www.national.com/obs/obsolescence.txt; ComponentLink4Description: URL Link1; ComponentLink4URL: http://www.national.com/pf/DC/ADC08134.html
footprint N14A (DIP; 14 Leads; Row Spacing 7.62 mm; Pitch 2.54 mm)
3D model N14A (DIP; 14 Leads; Row Spacing 7.62 mm; Pitch 2.54 mm)
pins: 1 VREF OUT (out), 2 ~{CS} (in), 3 CH0 (in), 4 CH1 (in), 5 CH2 (in), 6 CH3 (in), 7 DGND (power), 8 AGND (power), 9 VREF IN (in), 10 DO (hiz), 11 SARS (hiz), 12 CLK (in), 13 DI (in), 14 VCC (power)

## ADC08134BIWM
designator U?
8-Bit High-Speed Serial I/O A/D Converter with Multiplexer Options, Voltage Reference and Track/Hold Function; ComponentAvailability: Obsolete; Published: 15-Apr-2002; LatestRevisionDate: 13-Apr-2006; LatestRevisionNote: IPC-7351 Footprint Added.; PackageVersion: 2000; PackageReference: M14B; Publisher: Altium Limited; PackageDescription: 14-Pin Small Outline Integrated Circuit 1.27 mm Pitch; Code_JEDEC: MS-013-AF; Code_IPC: SOIC127P1030-14; ComponentLink1Description: Manufacturer Link; ComponentLink1URL: http://www.national.com/; ComponentLink2Description: Datasheet; ComponentLink2URL: http://www.national.com/ds.cgi/DC/ADC08131.pdf; ComponentLink3Description: Discontinuation Notice; ComponentLink3URL: http://www.national.com/obs/obsolescence.txt; ComponentLink4Description: URL Link1; ComponentLink4URL: http://www.national.com/pf/DC/ADC08134.html
footprint M14B_N (SOIC, 14-Leads, Body 9x7.5mm, Pitch 1.27mm, IPC Medium Density)
footprint M14B_L (SOIC, 14-Leads, Body 9x7.5mm, Pitch 1.27mm, IPC High Density)
footprint M14B_M (SOIC, 14-Leads, Body 9x7.5mm, Pitch 1.27mm, IPC Low Density)
3D model M14B (14-Pin Small Outline Integrated Circuit 1.27 mm Pitch)
pins: 1 VREF OUT (out), 2 ~{CS} (in), 3 CH0 (in), 4 CH1 (in), 5 CH2 (in), 6 CH3 (in), 7 DGND (power), 8 AGND (power), 9 VREF IN (in), 10 DO (hiz), 11 SARS (hiz), 12 CLK (in), 13 DI (in), 14 VCC (power)

## ADC08134CIN
designator U?
8-Bit High-Speed Serial I/O A/D Converter with Multiplexer Options, Voltage Reference and Track/Hold Function; ComponentAvailability: Obsolete; Published: 15-Apr-2002; LatestRevisionDate: 06-Jun-2005; LatestRevisionNote: Stylized 3D Model Added.; PackageVersion: 2000; PackageReference: N14A; Publisher: Altium Limited; PackageDescription: DIP; 14 Leads; Row Spacing 7.62 mm; Pitch 2.54 mm; ComponentLink1Description: Manufacturer Link; ComponentLink1URL: http://www.national.com/; ComponentLink2Description: Datasheet; ComponentLink2URL: http://www.national.com/ds.cgi/DC/ADC08131.pdf; ComponentLink3Description: Discontinuation Notice; ComponentLink3URL: http://www.national.com/obs/obsolescence.txt; ComponentLink4Description: URL Link1; ComponentLink4URL: http://www.national.com/pf/DC/ADC08134.html
footprint N14A (DIP; 14 Leads; Row Spacing 7.62 mm; Pitch 2.54 mm)
3D model N14A (DIP; 14 Leads; Row Spacing 7.62 mm; Pitch 2.54 mm)
pins: 1 VREF OUT (out), 2 ~{CS} (in), 3 CH0 (in), 4 CH1 (in), 5 CH2 (in), 6 CH3 (in), 7 DGND (power), 8 AGND (power), 9 VREF IN (in), 10 DO (hiz), 11 SARS (hiz), 12 CLK (in), 13 DI (in), 14 VCC (power)

## ADC08134CIWM
designator U?
8-Bit High-Speed Serial I/O A/D Converter with Multiplexer Options, Voltage Reference and Track/Hold Function; Published: 15-Apr-2002; LatestRevisionDate: 13-Apr-2006; LatestRevisionNote: IPC-7351 Footprint Added.; DatasheetVersion: Jun-1999; PackageVersion: 2000; PackageReference: M14B; Publisher: Altium Limited; PackageDescription: 14-Pin Small Outline Integrated Circuit 1.27 mm Pitch; Code_JEDEC: MS-013-AF; Code_IPC: SOIC127P1030-14; ComponentLink1Description: Manufacturer Link; ComponentLink1URL: http://www.national.com/; ComponentLink2Description: Datasheet; ComponentLink2URL: http://www.national.com/ds.cgi/DC/ADC08131.pdf; ComponentLink3Description: URL Link1; ComponentLink3URL: http://www.national.com/pf/DC/ADC08134.html
footprint M14B_N (SOIC, 14-Leads, Body 9x7.5mm, Pitch 1.27mm, IPC Medium Density)
footprint M14B_L (SOIC, 14-Leads, Body 9x7.5mm, Pitch 1.27mm, IPC High Density)
footprint M14B_M (SOIC, 14-Leads, Body 9x7.5mm, Pitch 1.27mm, IPC Low Density)
3D model M14B (14-Pin Small Outline Integrated Circuit 1.27 mm Pitch)
pins: 1 VREF OUT (out), 2 ~{CS} (in), 3 CH0 (in), 4 CH1 (in), 5 CH2 (in), 6 CH3 (in), 7 DGND (power), 8 AGND (power), 9 VREF IN (in), 10 DO (hiz), 11 SARS (hiz), 12 CLK (in), 13 DI (in), 14 VCC (power)

## ADC08138BIN
designator U?
8-Bit High-Speed Serial I/O A/D Converter with Multiplexer Options, Voltage Reference and Track/Hold Function; ComponentAvailability: Obsolete; Published: 15-Apr-2002; LatestRevisionDate: 06-Jun-2005; LatestRevisionNote: Stylized 3D Model Added.; PackageVersion: 2000; PackageReference: N20A; Publisher: Altium Limited; PackageDescription: DIP; 20 Leads; Row Spacing 7.62 mm; Pitch 2.54 mm; Code_JEDEC: MS-001-AD; ComponentLink1Description: Manufacturer Link; ComponentLink1URL: http://www.national.com/; ComponentLink2Description: Datasheet; ComponentLink2URL: http://www.national.com/ds.cgi/DC/ADC08131.pdf; ComponentLink3Description: Discontinuation Notice; ComponentLink3URL: http://www.national.com/obs/obsolescence.txt; ComponentLink4Description: URL Link1; ComponentLink4URL: http://www.national.com/pf/DC/ADC08138.html
footprint N20A (DIP; 20 Leads; Row Spacing 7.62 mm; Pitch 2.54 mm)
3D model N20A (DIP; 20 Leads; Row Spacing 7.62 mm; Pitch 2.54 mm)
pins: 1 CH0 (in), 2 CH1 (in), 3 CH2 (in), 4 CH3 (in), 5 CH4 (in), 6 CH5 (in), 7 CH6 (in), 8 CH7 (in), 9 COM (in), 10 DGND (power), 11 AGND (power), 12 VREF IN (in), 13 ~{SE} (in), 14 DO (hiz), 15 SARS (hiz), 16 CLK (in), 17 DI (in), 18 ~{CS} (in), 19 VREF OUT (out), 20 VCC (power)

## ADC08138BIWM
designator U?
8-Bit High-Speed Serial I/O A/D Converter with Multiplexer Options, Voltage Reference and Track/Hold Function; ComponentAvailability: Obsolete; Published: 15-Apr-2002; LatestRevisionDate: 13-Apr-2006; LatestRevisionNote: IPC-7351 Footprint Added.; PackageVersion: 2000; PackageReference: M20B; Publisher: Altium Limited; PackageDescription: 20-Pin Small Outline Integrated Circuit 1.27 mm Pitch; Code_JEDEC: MS-013-AC; Code_IPC: SOIC127P1030-20; ComponentLink1Description: Manufacturer Link; ComponentLink1URL: http://www.national.com/; ComponentLink2Description: Datasheet; ComponentLink2URL: http://www.national.com/ds.cgi/DC/ADC08131.pdf; ComponentLink3Description: Discontinuation Notice; ComponentLink3URL: http://www.national.com/obs/obsolescence.txt; ComponentLink4Description: URL Link1; ComponentLink4URL: http://www.national.com/pf/DC/ADC08138.html
footprint M20B_N (SOIC, 20-Leads, Body 12.8x7.5mm, Pitch 1.27mm, IPC Medium Density)
footprint M20B_L (SOIC, 20-Leads, Body 12.8x7.5mm, Pitch 1.27mm, IPC High Density)
footprint M20B_M (SOIC, 20-Leads, Body 12.8x7.5mm, Pitch 1.27mm, IPC Low Density)
3D model M20B (20-Pin Small Outline Integrated Circuit 1.27 mm Pitch)
pins: 1 CH0 (in), 2 CH1 (in), 3 CH2 (in), 4 CH3 (in), 5 CH4 (in), 6 CH5 (in), 7 CH6 (in), 8 CH7 (in), 9 COM (in), 10 DGND (power), 11 AGND (power), 12 VREF IN (in), 13 ~{SE} (in), 14 DO (hiz), 15 SARS (hiz), 16 CLK (in), 17 DI (in), 18 ~{CS} (in), 19 VREF OUT (out), 20 VCC (power)

## ADC08138CIN
designator U?
8-Bit High-Speed Serial I/O A/D Converter with Multiplexer Options, Voltage Reference and Track/Hold Function; ComponentAvailability: Obsolete; Published: 15-Apr-2002; LatestRevisionDate: 06-Jun-2005; LatestRevisionNote: Stylized 3D Model Added.; PackageVersion: 2000; PackageReference: N20A; Publisher: Altium Limited; PackageDescription: DIP; 20 Leads; Row Spacing 7.62 mm; Pitch 2.54 mm; Code_JEDEC: MS-001-AD; ComponentLink1Description: Manufacturer Link; ComponentLink1URL: http://www.national.com/; ComponentLink2Description: Datasheet; ComponentLink2URL: http://www.national.com/ds.cgi/DC/ADC08131.pdf; ComponentLink3Description: Discontinuation Notice; ComponentLink3URL: http://www.national.com/obs/obsolescence.txt; ComponentLink4Description: URL Link1; ComponentLink4URL: http://www.national.com/pf/DC/ADC08138.html
footprint N20A (DIP; 20 Leads; Row Spacing 7.62 mm; Pitch 2.54 mm)
3D model N20A (DIP; 20 Leads; Row Spacing 7.62 mm; Pitch 2.54 mm)
pins: 1 CH0 (in), 2 CH1 (in), 3 CH2 (in), 4 CH3 (in), 5 CH4 (in), 6 CH5 (in), 7 CH6 (in), 8 CH7 (in), 9 COM (in), 10 DGND (power), 11 AGND (power), 12 VREF IN (in), 13 ~{SE} (in), 14 DO (hiz), 15 SARS (hiz), 16 CLK (in), 17 DI (in), 18 ~{CS} (in), 19 VREF OUT (out), 20 VCC (power)

## ADC08138CIWM
designator U?
8-Bit High-Speed Serial I/O A/D Converter with Multiplexer Options, Voltage Reference and Track/Hold Function; Published: 15-Apr-2002; LatestRevisionDate: 13-Apr-2006; LatestRevisionNote: IPC-7351 Footprint Added.; DatasheetVersion: Jun-1999; PackageVersion: 2000; PackageReference: M20B; Publisher: Altium Limited; PackageDescription: 20-Pin Small Outline Integrated Circuit 1.27 mm Pitch; Code_JEDEC: MS-013-AC; Code_IPC: SOIC127P1030-20; ComponentLink1Description: Manufacturer Link; ComponentLink1URL: http://www.national.com/; ComponentLink2Description: Datasheet; ComponentLink2URL: http://www.national.com/ds.cgi/DC/ADC08131.pdf; ComponentLink3Description: URL Link1; ComponentLink3URL: http://www.national.com/pf/DC/ADC08138.html
footprint M20B_N (SOIC, 20-Leads, Body 12.8x7.5mm, Pitch 1.27mm, IPC Medium Density)
footprint M20B_L (SOIC, 20-Leads, Body 12.8x7.5mm, Pitch 1.27mm, IPC High Density)
footprint M20B_M (SOIC, 20-Leads, Body 12.8x7.5mm, Pitch 1.27mm, IPC Low Density)
3D model M20B (20-Pin Small Outline Integrated Circuit 1.27 mm Pitch)
pins: 1 CH0 (in), 2 CH1 (in), 3 CH2 (in), 4 CH3 (in), 5 CH4 (in), 6 CH5 (in), 7 CH6 (in), 8 CH7 (in), 9 COM (in), 10 DGND (power), 11 AGND (power), 12 VREF IN (in), 13 ~{SE} (in), 14 DO (hiz), 15 SARS (hiz), 16 CLK (in), 17 DI (in), 18 ~{CS} (in), 19 VREF OUT (out), 20 VCC (power)

## ADC08161BIN
designator U?
500 nS A/D Converter with S/H Function and 2.5V Bandgap Reference; ComponentAvailability: Obsolete; Published: 15-Apr-2002; LatestRevisionDate: 06-Jun-2005; LatestRevisionNote: Stylized 3D Model Added.; DatasheetVersion: Nov-1995; PackageVersion: 2000; PackageReference: N20A; Publisher: Altium Limited; PackageDescription: DIP; 20 Leads; Row Spacing 7.62 mm; Pitch 2.54 mm; Code_JEDEC: MS-001-AD; ComponentLink1Description: Manufacturer Link; ComponentLink1URL: http://www.national.com/; ComponentLink2Description: Datasheet; ComponentLink2URL: http://www.national.com/ds.cgi/DC/ADC08161.pdf; ComponentLink3Description: Discontinuation Notice; ComponentLink3URL: http://www.national.com/obs/obsolescence.txt; ComponentLink4Description: URL Link1; ComponentLink4URL: http://www.national.com/pf/DC/ADC08161.html
footprint N20A (DIP; 20 Leads; Row Spacing 7.62 mm; Pitch 2.54 mm)
3D model N20A (DIP; 20 Leads; Row Spacing 7.62 mm; Pitch 2.54 mm)
pins: 1 VIN (in), 2 DB0 (hiz), 3 DB1 (hiz), 4 DB2 (hiz), 5 DB3 (hiz), 6 ~{WR}/RDY (io), 7 MODE (in), 8 ~{RD} (in), 9 ~{INT} (out), 10 GND (power), 11 VREF- (in), 12 VREF+ (in), 13 ~{CS} (in), 14 DB4 (hiz), 15 DB5 (hiz), 16 DB6 (hiz), 17 DB7 (hiz), 18 ~{OFL} (out), 19 VREFOUT (out), 20 VDD (power)

## ADC08161BIWM
designator U?
500 nS A/D Converter with S/H Function and 2.5V Bandgap Reference; ComponentAvailability: Obsolete; Published: 15-Apr-2002; LatestRevisionDate: 13-Apr-2006; LatestRevisionNote: IPC-7351 Footprint Added.; DatasheetVersion: Nov-1995; PackageVersion: 2000; PackageReference: M20B; Publisher: Altium Limited; PackageDescription: 20-Pin Small Outline Integrated Circuit 1.27 mm Pitch; Code_JEDEC: MS-013-AC; Code_IPC: SOIC127P1030-20; ComponentLink1Description: Manufacturer Link; ComponentLink1URL: http://www.national.com/; ComponentLink2Description: Datasheet; ComponentLink2URL: http://www.national.com/ds.cgi/DC/ADC08161.pdf; ComponentLink3Description: Discontinuation Notice; ComponentLink3URL: http://www.national.com/obs/obsolescence.txt; ComponentLink4Description: URL Link1; ComponentLink4URL: http://www.national.com/pf/DC/ADC08161.html
footprint M20B_N (SOIC, 20-Leads, Body 12.8x7.5mm, Pitch 1.27mm, IPC Medium Density)
footprint M20B_L (SOIC, 20-Leads, Body 12.8x7.5mm, Pitch 1.27mm, IPC High Density)
footprint M20B_M (SOIC, 20-Leads, Body 12.8x7.5mm, Pitch 1.27mm, IPC Low Density)
3D model M20B (20-Pin Small Outline Integrated Circuit 1.27 mm Pitch)
pins: 1 VIN (in), 2 DB0 (hiz), 3 DB1 (hiz), 4 DB2 (hiz), 5 DB3 (hiz), 6 ~{WR}/RDY (io), 7 MODE (in), 8 ~{RD} (in), 9 ~{INT} (out), 10 GND (power), 11 VREF- (in), 12 VREF+ (in), 13 ~{CS} (in), 14 DB4 (hiz), 15 DB5 (hiz), 16 DB6 (hiz), 17 DB7 (hiz), 18 ~{OFL} (out), 19 VREFOUT (out), 20 VDD (power)

## ADC08161CIN
designator U?
500 nS A/D Converter with S/H Function and 2.5V Bandgap Reference; ComponentAvailability: Obsolete; Published: 15-Apr-2002; LatestRevisionDate: 06-Jun-2005; LatestRevisionNote: Stylized 3D Model Added.; DatasheetVersion: Nov-1995; PackageVersion: 2000; PackageReference: N20A; Publisher: Altium Limited; PackageDescription: DIP; 20 Leads; Row Spacing 7.62 mm; Pitch 2.54 mm; Code_JEDEC: MS-001-AD; ComponentLink1Description: Manufacturer Link; ComponentLink1URL: http://www.national.com/; ComponentLink2Description: Datasheet; ComponentLink2URL: http://www.national.com/ds.cgi/DC/ADC08161.pdf; ComponentLink3Description: Discontinuation Notice; ComponentLink3URL: http://www.national.com/obs/obsolescence.txt; ComponentLink4Description: URL Link1; ComponentLink4URL: http://www.national.com/pf/DC/ADC08161.html
footprint N20A (DIP; 20 Leads; Row Spacing 7.62 mm; Pitch 2.54 mm)
3D model N20A (DIP; 20 Leads; Row Spacing 7.62 mm; Pitch 2.54 mm)
pins: 1 VIN (in), 2 DB0 (hiz), 3 DB1 (hiz), 4 DB2 (hiz), 5 DB3 (hiz), 6 ~{WR}/RDY (io), 7 MODE (in), 8 ~{RD} (in), 9 ~{INT} (out), 10 GND (power), 11 VREF- (in), 12 VREF+ (in), 13 ~{CS} (in), 14 DB4 (hiz), 15 DB5 (hiz), 16 DB6 (hiz), 17 DB7 (hiz), 18 ~{OFL} (out), 19 VREFOUT (out), 20 VDD (power)

## ADC08161CIWM
designator U?
500 nS A/D Converter with S/H Function and 2.5V Bandgap Reference; Published: 15-Apr-2002; LatestRevisionDate: 13-Apr-2006; LatestRevisionNote: IPC-7351 Footprint Added.; DatasheetVersion: Jun-1999; PackageVersion: 2000; PackageReference: M20B; Publisher: Altium Limited; PackageDescription: 20-Pin Small Outline Integrated Circuit 1.27 mm Pitch; Code_JEDEC: MS-013-AC; Code_IPC: SOIC127P1030-20; ComponentLink1Description: Manufacturer Link; ComponentLink1URL: http://www.national.com/; ComponentLink2Description: Datasheet; ComponentLink2URL: http://www.national.com/ds.cgi/DC/ADC08161.pdf; ComponentLink3Description: URL Link1; ComponentLink3URL: http://www.national.com/pf/DC/ADC08161.html
footprint M20B_N (SOIC, 20-Leads, Body 12.8x7.5mm, Pitch 1.27mm, IPC Medium Density)
footprint M20B_L (SOIC, 20-Leads, Body 12.8x7.5mm, Pitch 1.27mm, IPC High Density)
footprint M20B_M (SOIC, 20-Leads, Body 12.8x7.5mm, Pitch 1.27mm, IPC Low Density)
3D model M20B (20-Pin Small Outline Integrated Circuit 1.27 mm Pitch)
pins: 1 VIN (in), 2 DB0 (hiz), 3 DB1 (hiz), 4 DB2 (hiz), 5 DB3 (hiz), 6 ~{WR}/RDY (io), 7 MODE (in), 8 ~{RD} (in), 9 ~{INT} (out), 10 GND (power), 11 VREF- (in), 12 VREF+ (in), 13 ~{CS} (in), 14 DB4 (hiz), 15 DB5 (hiz), 16 DB6 (hiz), 17 DB7 (hiz), 18 ~{OFL} (out), 19 VREFOUT (out), 20 VDD (power)

## ADC08231BIN
designator U?
8-Bit 2 µs Serial I/O A/D Converter with MUX, Reference and Track/Hold; ComponentAvailability: Obsolete; Published: 15-Apr-2002; LatestRevisionDate: 06-Jun-2005; LatestRevisionNote: Stylized 3D Model Added.; DatasheetVersion: Dec-1994; PackageVersion: Sep-1997; PackageReference: N08E; Publisher: Altium Limited; PackageDescription: DIP; 8 Leads; Row Spacing 7.62 mm; Pitch 2.54 mm; ComponentLink1Description: Manufacturer Link; ComponentLink1URL: http://www.national.com/; ComponentLink2Description: Datasheet; ComponentLink2URL: http://www.national.com/ds.cgi/DC/ADC08231.pdf; ComponentLink3Description: Discontinuation Notice; ComponentLink3URL: http://www.national.com/obs/obsolescence.txt; ComponentLink4Description: URL Link1; ComponentLink4URL: http://www.national.com/pf/DC/ADC08231.html
footprint N08E (DIP; 8 Leads; Row Spacing 7.62 mm; Pitch 2.54 mm)
3D model N08E (DIP; 8 Leads; Row Spacing 7.62 mm; Pitch 2.54 mm)
pins: 1 ~{CS} (in), 2 VIN+ (in), 3 VIN- (in), 4 GND (power), 5 VREF C (in), 6 DO (hiz), 7 CLK (in), 8 VCC (power)

## ADC08231BIWM
designator U?
8-Bit 2 µs Serial I/O A/D Converter with MUX, Reference and Track/Hold; ComponentAvailability: Obsolete; Published: 15-Apr-2002; LatestRevisionDate: 13-Apr-2006; LatestRevisionNote: IPC-7351 Footprint Added.; DatasheetVersion: Dec-1994; PackageVersion: 2000; PackageReference: M14B; Publisher: Altium Limited; PackageDescription: 14-Pin Small Outline Integrated Circuit 1.27 mm Pitch; Code_JEDEC: MS-013-AF; Code_IPC: SOIC127P1030-14; ComponentLink1Description: Manufacturer Link; ComponentLink1URL: http://www.national.com/; ComponentLink2Description: Datasheet; ComponentLink2URL: http://www.national.com/ds.cgi/DC/ADC08231.pdf; ComponentLink3Description: Discontinuation Notice; ComponentLink3URL: http://www.national.com/obs/obsolescence.txt; ComponentLink4Description: URL Link1; ComponentLink4URL: http://www.national.com/pf/DC/ADC08231.html
footprint M14B_N (SOIC, 14-Leads, Body 9x7.5mm, Pitch 1.27mm, IPC Medium Density)
footprint M14B_L (SOIC, 14-Leads, Body 9x7.5mm, Pitch 1.27mm, IPC High Density)
footprint M14B_M (SOIC, 14-Leads, Body 9x7.5mm, Pitch 1.27mm, IPC Low Density)
3D model M14B (14-Pin Small Outline Integrated Circuit 1.27 mm Pitch)
pins: 1 ~{CS} (in), 2 NC, 3 VIN+ (in), 4 NC, 5 VIN- (in), 6 NC, 7 GND (power), 8 VREF C (in), 9 NC, 10 DO (hiz), 11 NC, 12 CLK (in), 13 NC, 14 VCC (power)

## ADC08231CIN
designator U?
8-Bit 2 µs Serial I/O A/D Converter with MUX, Reference and Track/Hold; ComponentAvailability: Obsolete; Published: 15-Apr-2002; LatestRevisionDate: 06-Jun-2005; LatestRevisionNote: Stylized 3D Model Added.; DatasheetVersion: Dec-1994; PackageVersion: Sep-1997; PackageReference: N08E; Publisher: Altium Limited; PackageDescription: DIP; 8 Leads; Row Spacing 7.62 mm; Pitch 2.54 mm; ComponentLink1Description: Manufacturer Link; ComponentLink1URL: http://www.national.com/; ComponentLink2Description: Datasheet; ComponentLink2URL: http://www.national.com/ds.cgi/DC/ADC08231.pdf; ComponentLink3Description: Discontinuation Notice; ComponentLink3URL: http://www.national.com/obs/obsolescence.txt; ComponentLink4Description: URL Link1; ComponentLink4URL: http://www.national.com/pf/DC/ADC08231.html
footprint N08E (DIP; 8 Leads; Row Spacing 7.62 mm; Pitch 2.54 mm)
3D model N08E (DIP; 8 Leads; Row Spacing 7.62 mm; Pitch 2.54 mm)
pins: 1 ~{CS} (in), 2 VIN+ (in), 3 VIN- (in), 4 GND (power), 5 VREF C (in), 6 DO (hiz), 7 CLK (in), 8 VCC (power)

## ADC08231CIWM
designator U?
8-Bit 2 µs Serial I/O A/D Converter with MUX, Reference and Track/Hold; ComponentAvailability: Obsolete; Published: 15-Apr-2002; LatestRevisionDate: 13-Apr-2006; LatestRevisionNote: IPC-7351 Footprint Added.; DatasheetVersion: Dec-1994; PackageVersion: 2000; PackageReference: M14B; Publisher: Altium Limited; PackageDescription: 14-Pin Small Outline Integrated Circuit 1.27 mm Pitch; Code_JEDEC: MS-013-AF; Code_IPC: SOIC127P1030-14; ComponentLink1Description: Manufacturer Link; ComponentLink1URL: http://www.national.com/; ComponentLink2Description: Datasheet; ComponentLink2URL: http://www.national.com/ds.cgi/DC/ADC08231.pdf; ComponentLink3Description: Discontinuation Notice; ComponentLink3URL: http://www.national.com/obs/obsolescence.txt; ComponentLink4Description: URL Link1; ComponentLink4URL: http://www.national.com/pf/DC/ADC08231.html
footprint M14B_N (SOIC, 14-Leads, Body 9x7.5mm, Pitch 1.27mm, IPC Medium Density)
footprint M14B_L (SOIC, 14-Leads, Body 9x7.5mm, Pitch 1.27mm, IPC High Density)
footprint M14B_M (SOIC, 14-Leads, Body 9x7.5mm, Pitch 1.27mm, IPC Low Density)
3D model M14B (14-Pin Small Outline Integrated Circuit 1.27 mm Pitch)
pins: 1 ~{CS} (in), 2 NC, 3 VIN+ (in), 4 NC, 5 VIN- (in), 6 NC, 7 GND (power), 8 VREF C (in), 9 NC, 10 DO (hiz), 11 NC, 12 CLK (in), 13 NC, 14 VCC (power)

## ADC08234BIN
designator U?
8-Bit 2 µs Serial I/O A/D Converter with MUX, Reference and Track/Hold; Published: 15-Apr-2002; LatestRevisionDate: 06-Jun-2005; LatestRevisionNote: Stylized 3D Model Added.; DatasheetVersion: Dec-1994; PackageVersion: 2000; PackageReference: N14A; Publisher: Altium Limited; PackageDescription: DIP; 14 Leads; Row Spacing 7.62 mm; Pitch 2.54 mm; ComponentLink1Description: Manufacturer Link; ComponentLink1URL: http://www.national.com/; ComponentLink2Description: Datasheet; ComponentLink2URL: http://www.national.com/ds.cgi/DC/ADC08231.pdf; ComponentLink3Description: URL Link1; ComponentLink3URL: http://www.national.com/pf/DC/ADC08234.html
footprint N14A (DIP; 14 Leads; Row Spacing 7.62 mm; Pitch 2.54 mm)
3D model N14A (DIP; 14 Leads; Row Spacing 7.62 mm; Pitch 2.54 mm)
pins: 1 VREF OUT (out), 2 ~{CS} (in), 3 CH0 (in), 4 CH1 (in), 5 CH2 (in), 6 CH3 (in), 7 DGND (power), 8 AGND (power), 9 VREF IN (in), 10 DO (hiz), 11 SARS (hiz), 12 CLK (in), 13 DI (in), 14 VCC (power)